# EAGLE library part MICRO-SD (library bytewerk-mechanical)
SD-Card Slot - card detect pin pulled to gnd on detection
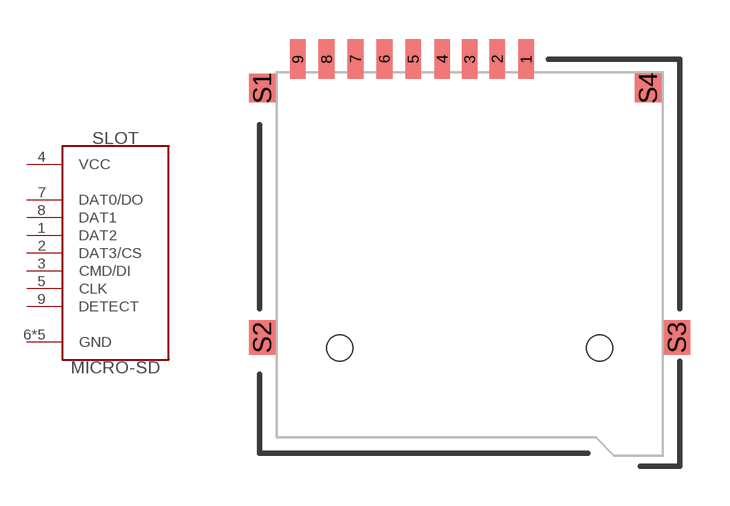
[diagram p0: symbol with the pads of MR01-AP20324; footprint MR01-AP20324]

Designator prefix SLOT

## MICRO-SD (MF: ATOM; MPN: MR01-AP20324; OC_POLLIN: 451 526)  [MR01-AP20324]
1  DAT2
2  DAT3/CS
3  CMD/DI  in
4  VCC  pwr
5  CLK  in
6  GND  pwr
7  DAT0/DO
8  DAT1
9  DETECT  pas
S1  GND  pwr
S2  GND  pwr
S3  GND  pwr
S4  GND  pwr

## Footprint MR01-AP20324 (pad centres in mm)
smd 0.6 x 1.5: 1 2.15,0.5; 2 1.05,0.5; 3 0,0.5; 4 -1.05,0.5; 5 -2.15,0.5; 6 -3.25,0.5; 7 -4.35,0.5; 8 -5.45,0.5; 9 -6.55,0.5
smd 1 x 1.1: S1 -7.9,-0.6; S4 6.8,-0.6
smd 1 x 1.3: S2 -7.9,-10.1; S3 7.9,-10.1
hole 1 at -4.95,-10.5
hole 1 at 4.95,-10.5